# Altium footprint library PCB_Altium_Library_Manuel.PcbLib: 53 footprints (part 3 of 4)
Each footprint in its own frame and in the unit in brackets; x right, y up, seen from the top. Pads: shape width x height; smd on the part's side, far side on the other; paste and mask are expansions set on the pad; w line width, h text height; cw(c..) or ccw(c..) is an arc to the next point about the centre after c.
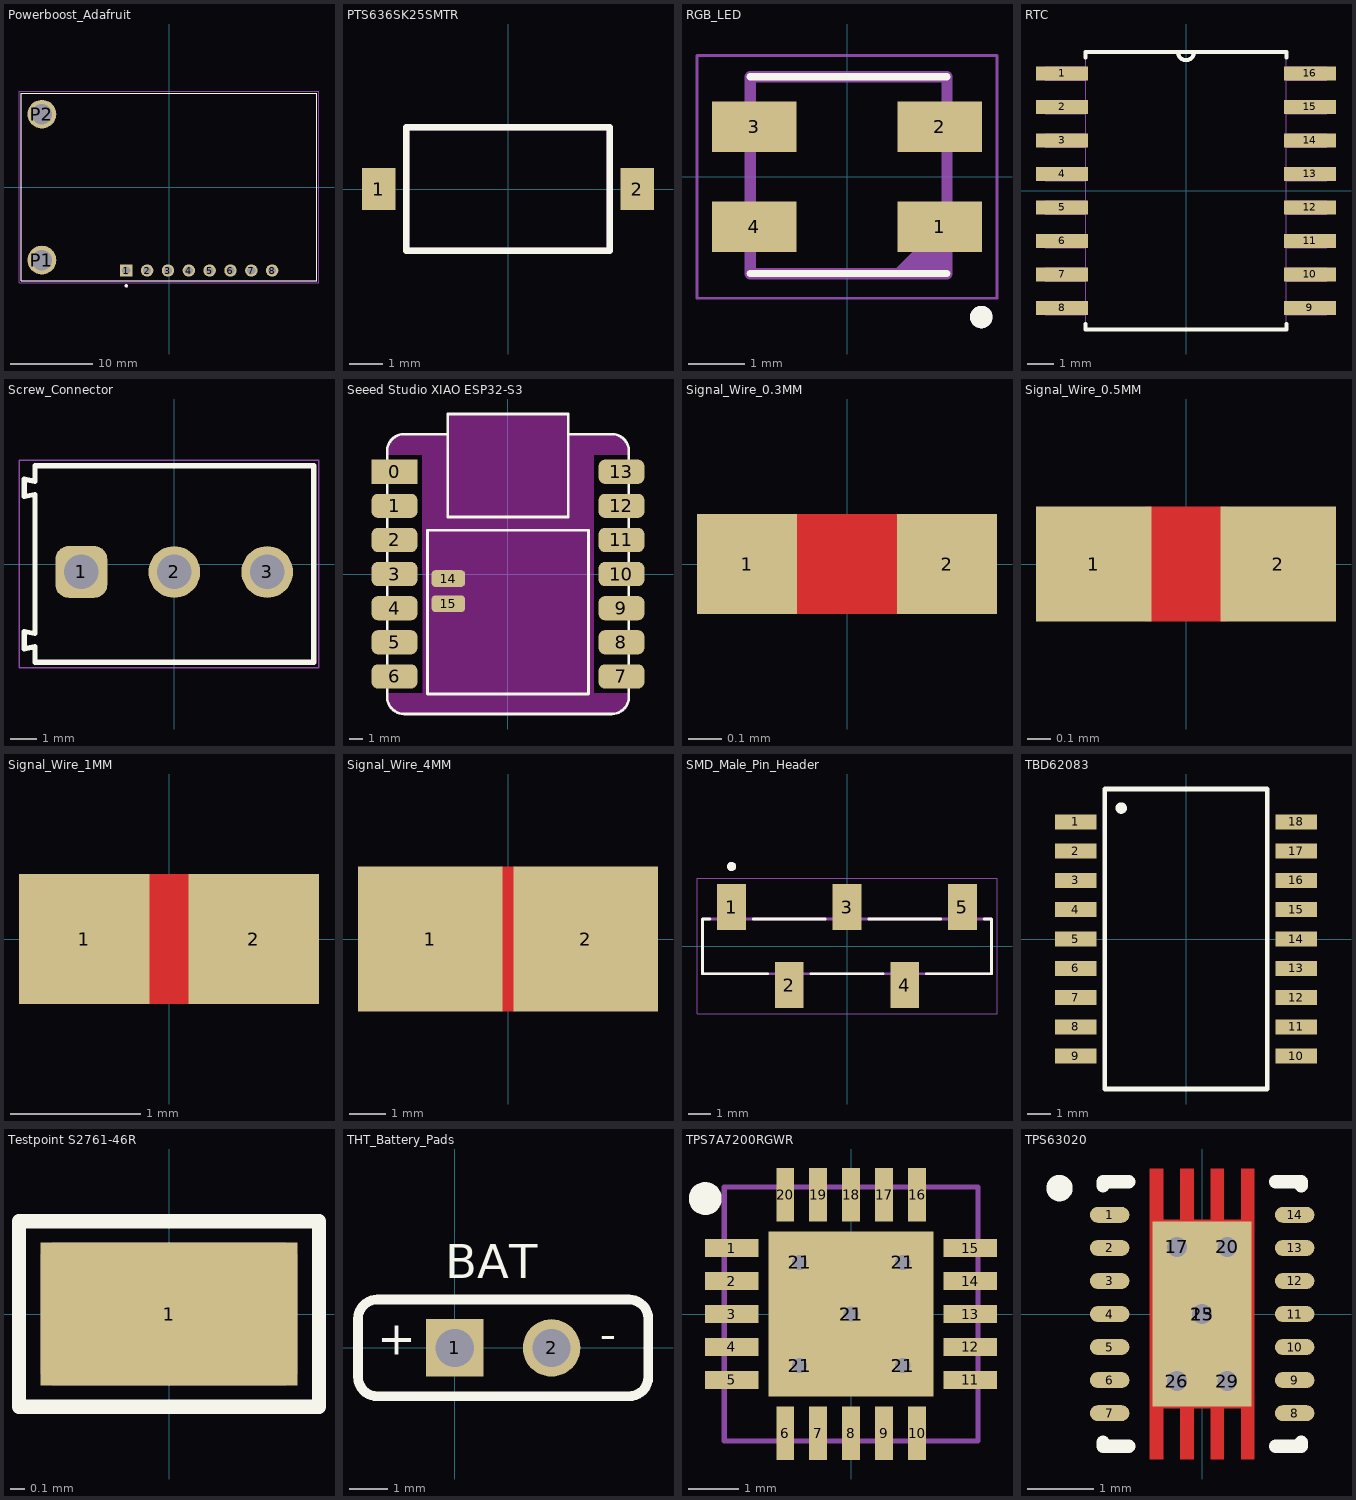
[diagram p2: the footprints below, top view; thin cyan lines are the x and y axes]

## Powerboost_Adafruit [mm] "PowerBoost 1000 Charger - Rechargeable 5V Lipo USB Boost @ 1A - 1000C"
pads (10):
  rect 1.508x1.508 / inner round 1.508 / far side rect 1.508x1.508 hole 1: 1(-5.207,-10.16)
  round 1.508 hole 1: 2(-2.667,-10.16) 3(-0.127,-10.16) 4(2.413,-10.16) 5(4.953,-10.16) 6(7.493,-10.16) 7(10.033,-10.16) 8(12.573,-10.16)
  round 3.516 hole 2.5: P1(-15.494,-8.89) P2(-15.494,8.89)
Top Overlay:
  circle w0.2: c-5.207,-12.03 r0.1
  lines w0.127: -18.034,-11.43 18.034,-11.43 18.034,11.43 -18.034,11.43 -18.034,-11.43
Mechanical 13:
  circle w0.2: c-5.207,-12.03 r0.1
  lines w0.127: -18.034,-11.43 -18.034,11.43 18.034,11.43 18.034,-11.43 -18.034,-11.43
Mechanical 15:
  lines w0.05: -18.284,-11.68 -18.284,11.68 18.284,11.68 18.284,-11.68 -18.284,-11.68
3D body "step_temp.STEP": height 7.18, standoff 0.01, extent -18.666,-11.43 18.034,11.43

## PTS636SK25SMTR [mm]
pads (2):
  rect 1x1.25 smd: 1(-3.875,0) 2(3.875,0)
Top Overlay:
  lines w0.2: -3.05,-1.85 3.05,-1.85 3.05,1.85 -3.05,1.85 -3.05,-1.85
Mechanical 13:
  lines w0.2: -3.05,-1.85 3.05,-1.85 3.05,1.85 -3.05,1.85 -3.05,-1.85
3D body "PTS636SK25SMTR_LFS.stp": height 2.5, standoff -0.05, extent -4,-1.85 4,1.85

## RGB_LED [mm] "S35353RGBSK6812MINID001"
pads (4):
  rect 1.5x0.9 smd: 1(1.651,-0.889) 2(1.651,0.889) 3(-1.651,0.889) 4(-1.651,-0.889)
Top Overlay:
  circle w0.2: c2.388,-2.494 r0.1
  lines w0.127: -1.722,-1.722 1.778,-1.722 ; -1.722,1.778 1.778,1.778
Mechanical 13:
  circle w0.2: c2.388,-2.494 r0.1
  region: 1.778,-1.722 0.778,-1.722 1.778,-0.722
  lines w0.2: -1.722,-1.722 1.778,-1.722 1.778,1.778 -1.722,1.778 -1.722,-1.722
Mechanical 15:
  lines w0.05: -2.667,-2.159 -2.667,2.159 2.667,2.159 2.667,-2.159 -2.667,-2.159
3D body "SK68XXMINI-HS--3DModel-STEP-269445.STEP": height 1.96, standoff 0.01, extent -1.85,-1.75 1.85,1.75

## RTC [mil] "DS3231S#, SOIC127P1032X265-16N, Real Time Clock (RTC) IC Clock/Calendar - IÂ²C, 2-Wire Serial 16-SOIC (0.295, 7.50mm Width)."
pads (16):
  rect 78x21 smd: 1(-185,175) 2(-185,125) 3(-185,75) 4(-185,25) 5(-185,-25) 6(-185,-75) 7(-185,-125) 8(-185,-175) 9(185,-175) 10(185,-125) 11(185,-75) 12(185,-25) 13(185,25) 14(185,75) 15(185,125) 16(185,175)
Top Overlay:
  lines w6: -150,-199 -150,-207 150,-207 150,-199 ; -150,199 -150,207 -12,207 ; 150,199 150,207 12,207 ; -12,207 ccw(c0,207) 12,207 ; -12,207 12,207
Mechanical 13:
  lines w0: -12,207 ccw(c0,207) 12,207 ; -12,207 -150,207 -150,-207 150,-207 150,207 12,207 ; -12,207 12,207 ; -210,-185 -150,-185 -150,-165 -210,-165 -210,-185 ; -210,-135 -150,-135 -150,-115 -210,-115 -210,-135 ; -210,-85 -150,-85 -150,-65 -210,-65 -210,-85 ; -210,-35 -150,-35 -150,-15 -210,-15 -210,-35 ; -210,15 -150,15 -150,35 -210,35 -210,15 ; -210,65 -150,65 -150,85 -210,85 -210,65 ; -210,115 -150,115 -150,135 -210,135 -210,115 ; -210,165 -150,165 -150,185 -210,185 -210,165 ; 150,-185 210,-185 210,-165 150,-165 150,-185 ; 150,-135 210,-135 210,-115 150,-115 150,-135 ; 150,-85 210,-85 210,-65 150,-65 150,-85 ; 150,-35 210,-35 210,-15 150,-15 150,-35 ; 150,15 210,15 210,35 150,35 150,15 ; 150,65 210,65 210,85 150,85 150,65 ; 150,115 210,115 210,135 150,135 150,115 ; 150,165 210,165 210,185 150,185 150,165
3D body "step_temp.STEP": height 104.33, standoff 0, extent -203.25,-202.76 203.25,202.76

## Screw_Connector [mm] "691214110003 Wurth Elektronik, 3.50 mm Horizontal Entry Modular, 3p"
pads (3):
  rrect50% 1.95x1.95 hole 1.3: 1(-3.5,-0.3)
  round 1.95 hole 1.3: 2(0,-0.3) 3(3.5,-0.3)
Top Overlay:
  lines w0.2: -5.65,-3.195 -5.65,-2.545 -5.25,-2.62 -5.25,2.62 -5.65,2.545 -5.65,3.195 -5.25,3.12 -5.25,3.7 5.25,3.7 5.25,-3.7 -5.25,-3.7 -5.25,-3.12 -5.65,-3.195
Top 3D Body:
  lines w0.1: -5.65,-3.195 -5.65,-2.545 -5.25,-2.62 -5.25,2.62 -5.65,2.545 -5.65,3.195 -5.25,3.12 -5.25,3.7 5.25,3.7 5.25,-3.7 -5.25,-3.7 -5.25,-3.12 -5.65,-3.195
Top Courtyard:
  lines w0.05: -5.85,-3.9 -5.85,3.9 5.45,3.9 5.45,-3.9 -5.85,-3.9
Top Assembly:
  lines w0.1: -5.65,-3.195 -5.25,-3.12 -5.25,-3.7 5.25,-3.7 5.25,3.7 -5.25,3.7 -5.25,3.12 -5.65,3.195 -5.65,2.545 -5.25,2.62 -5.25,-2.62 -5.65,-2.545 -5.65,-3.195
Top Designator:
  text ".Designator" at -3.647,-0.357 h1
Bottom Courtyard:
  lines w0.1: -0.5,0 0.5,0 ; 0,-0.5 0,0.5
3D body "691214110003.stp": height 8.55, standoff -3.65, extent -5.7,-3.7 5.25,3.7

## Seeed Studio XIAO ESP32-S3 [mm]
pads (17):
  rect 3.4x1.8 smd: 0(-8.45,7.62)
  rrect50% 3.4x1.8 smd: 1(-8.45,5.08) 2(-8.45,2.54) 3(-8.45,0) 4(-8.45,-2.54) 5(-8.45,-5.08) 6(-8.45,-7.62) 7(8.45,-7.62) 8(8.45,-5.08) 9(8.45,-2.54) 10(8.45,0) 11(8.45,2.54) 12(8.45,5.08) 13(8.45,7.62)
  rrect50% 2.5x1.25 smd: 14(-4.445,-0.33) 15(-4.445,-2.21)
  rrect50% 0.05x0.05 on Mech13: 36(0,0.005)
Top Overlay:
  lines w0.2: -4.475,10.42 -4.475,11.92 4.475,11.92 4.475,10.42 ; -4.475,10.42 -7.75,10.42 ccw(c-7.75,9.17) -9,9.17 -9,-9.155 ccw(c-7.735,-9.155) -7.735,-10.42 7.735,-10.42 ccw(c7.735,-9.155) 9,-9.155 9,9.17 ccw(c7.75,9.17) 7.75,10.42 4.475,10.42 ; -4.475,10.42 -4.475,4.245 4.475,4.245 4.475,10.42 ; -6,-8.93 6,-8.93 6,3.27 -6,3.27 -6,-8.93
Keep-Out Layer:
  region: -4.475,11.92 4.475,11.92 4.475,10.42 8.247,10.42 9,9.667 9,8.9 6.384,8.9 6.384,-8.884 9,-8.884 9,-9.641 8.314,-10.328 7.827,-10.328 7.735,-10.42 -8.163,-10.42 -8.779,-9.803 -8.821,-9.803 -9,-9.625 -9,-8.884 -6.347,-8.884 -6.4,8.9 -9,8.9 -9,9.587 -8.555,10.032 -8.555,10.126 -8.261,10.42 -4.475,10.42
3D body: height 1.2, standoff 0, extent 6.8,-8.57 9.025,-6.67
3D body: height 1.2, standoff 0, extent -9.025,-8.57 -6.8,-6.67
3D body: height 1.2, standoff 0, extent 6.8,-6.03 9.025,-4.13
3D body: height 1.2, standoff 0, extent -9.025,-6.03 -6.8,-4.13
3D body: height 1.2, standoff 0, extent 6.8,-3.49 9.025,-1.59
3D body: height 1.2, standoff 0, extent -9.025,-3.49 -6.8,-1.59
3D body: height 1.2, standoff 0, extent 6.8,-0.95 9.025,0.95
3D body: height 1.2, standoff 0, extent -9.025,-0.95 -6.8,0.95
3D body: height 1.2, standoff 0, extent 6.8,1.59 9.025,3.49
3D body: height 1.2, standoff 0, extent -9.025,1.59 -6.8,3.49
3D body: height 1.2, standoff 0, extent 6.8,4.13 9.025,6.03
3D body: height 1.2, standoff 0, extent -9.025,4.13 -6.8,6.03
3D body: height 1.2, standoff 0, extent 6.8,6.67 9.025,8.57
3D body: height 1.2, standoff 0, extent -9.025,6.67 -6.8,8.57
3D body "XIAO ESP32C3--3DModel-STEP-269445.STEP": height 4.21, standoff 0, extent -8.89,-10.477 8.89,11.986

## Signal_Wire_0.3MM [mm] "Signal wire to connect two different signals in schematic"
pads (2):
  rect 0.3x0.3 smd paste-0.2 mask-0.2: 1(-0.3,0) 2(0.3,0)
Top Layer:
  rectangle: -0.2,-0.15 0.2,0.15

## Signal_Wire_0.5MM [mm] "Signal wire to connect two different signals in schematic"
pads (2):
  rect 0.5x0.5 smd paste-0.4 mask+0.102: 1(-0.4,0) 2(0.4,0)
Top Layer:
  rectangle: -0.175,-0.25 0.175,0.25

## Signal_Wire_1MM [mm] "Signal wire to connect two different signals in schematic"
pads (2):
  rect 1x1 smd paste-0.8 mask+0.102: 1(-0.65,0) 2(0.65,0)
Top Layer:
  rectangle: -0.175,-0.5 0.175,0.5

## Signal_Wire_4MM [mm] "Signal wire (Power) to connect two different signals in schematic"
pads (2):
  rect 4x4 smd paste-3 mask+0.102: 1(-2.15,0) 2(2.15,0)
Top Layer:
  rectangle: -0.2,-2 0.2,2

## SMD_Male_Pin_Header [mm] "10129380-905001BLF, 5x1 2.54mm Male Pin Header."
pads (5):
  rect 1.27x2.03 smd: 1(-5.08,1.715) 2(-2.54,-1.715) 3(0,1.715) 4(2.54,-1.715) 5(5.08,1.715)
Top Overlay:
  circle w0.2: c-5.08,3.5 r0.1
  lines w0.127: -6.035,1.19 -6.35,1.19 -6.35,-1.22 -3.495,-1.22 ; -4.125,1.19 -0.955,1.19 ; -1.585,-1.22 1.585,-1.22 ; 0.955,1.19 4.125,1.19 ; 3.495,-1.22 6.35,-1.22 6.35,1.19 6.035,1.19
Mechanical 13:
  circle w0.2: c-5.08,3.5 r0.1
  lines w0.127: -6.35,-1.22 -6.35,1.19 6.35,1.19 6.35,-1.22 -6.35,-1.22
Mechanical 15:
  lines w0.05: -6.6,-2.98 -6.6,2.98 6.6,2.98 6.6,-2.98 -6.6,-2.98
3D body "step_temp.STEP": height 9.85, standoff 0, extent -6.35,-2.415 6.35,2.415

## TBD62083 [mm] "Gate Drivers DMOS Transistor Array 8-CH, 50V/0.5A SOP-18"
pads (18):
  rect 1.8x0.65 smd: 1(-4.775,5.08) 2(-4.775,3.81) 3(-4.775,2.54) 4(-4.775,1.27) 5(-4.775,0) 6(-4.775,-1.27) 7(-4.775,-2.54) 8(-4.775,-3.81) 9(-4.775,-5.08) 10(4.775,-5.08) 11(4.775,-3.81) 12(4.775,-2.54) 13(4.775,-1.27) 14(4.775,0) 15(4.775,1.27) 16(4.775,2.54) 17(4.775,3.81) 18(4.775,5.08)
Top Overlay:
  circle w0.3: c-2.809,5.673 r0.1
  lines w0.2: -3.525,-6.5 3.525,-6.5 3.525,6.5 -3.525,6.5 -3.525,-6.5
Mechanical 15:
  lines w0.1: -3.5,-6.5 3.5,-6.5 3.5,6.5 -3.5,6.5 -3.5,-6.5
3D body "TBD62083AFG,EL.stp": height 2.45, standoff 0, extent -5.15,-6.5 5.15,6.5

## Testpoint S2761-46R [mm] "Prüfstecker und Messbuchsen EZ BoardWare S27 SMT Mini Test Terminal, Reel"
pads (1):
  rect 1.8x1 smd: 1(0,0)
Top Overlay:
  lines w0.1: -1.05,-0.65 -1.05,0.65 1.05,0.65 1.05,-0.65 -1.05,-0.65
Mechanical 15:
  lines w0.2: -0.8,-0.4 -0.8,0.4 0.8,0.4 0.8,-0.4 -0.8,-0.4
3D body "S2761-46R.stp": height 1.23, standoff 0.05, extent -0.8,-0.4 0.8,0.4

## THT_Battery_Pads [mm] "Pads to connect battery"
pads (2):
  rect 1.508x1.508 / inner round 1.508 / far side rect 1.508x1.508 hole 1: 1(0,0)
  round 1.508 hole 1: 2(2.54,0)
Top Overlay:
  lines w0.254: -2.54,-0.762 ccw(c-2.032,-0.762) -2.032,-1.27 4.572,-1.27 ccw(c4.572,-0.762) 5.08,-0.762 5.08,0.762 ccw(c4.572,0.762) 4.572,1.27 -2.032,1.27 ccw(c-2.032,0.762) -2.54,0.762 -2.54,-0.762
  text "-" at 3.81,-0.354 h1.52
  text "+" at -2.032,-0.48 h1.52
  text "BAT" at -0.254,1.524 h1.52

## TPS7A7200RGWR [mm] "Festspannungsregler 3V, Mouser Nr. 595-TPS7A7200RGWR"
pads (26):
  rect 1.05x0.35 smd: 1(-2.35,1.3) 2(-2.35,0.65) 3(-2.35,0) 4(-2.35,-0.65) 5(-2.35,-1.3) 11(2.35,-1.3) 12(2.35,-0.65) 13(2.35,0) 14(2.35,0.65) 15(2.35,1.3)
  rect 0.35x1.05 smd: 6(-1.3,-2.35) 7(-0.65,-2.35) 8(0,-2.35) 9(0.65,-2.35) 10(1.3,-2.35) 16(1.3,2.35) 17(0.65,2.35) 18(0,2.35) 19(-0.65,2.35) 20(-1.3,2.35)
  round 0.7 hole 0.3: 21(-1.016,-1.016) 21(-1.016,1.016) 21(0,0) 21(1.016,-1.016) 21(1.016,1.016)
  rect 3.25x3.25 smd: 21(0,0)
Top Overlay:
  circle w0.325: c-2.875,2.275 r0.162
Mechanical 13:
  lines w0.1: -2.5,-2.5 2.5,-2.5 2.5,2.5 -2.5,2.5 -2.5,-2.5
3D body "TPS7A7200RGWR.stp": height 1, standoff 0, extent -2.5,-2.5 2.5,2.5

## TPS63020 [mm] "Buck-Boost-Converter, Input: 1.8V-5.5V, Output:  1.2 V to 5.5 V, VSON-14"
pads (20):
  oval 0.6x0.24 smd mask+0: 1(-1.4,1.5) 2(-1.4,1) 3(-1.4,0.5) 4(-1.4,0) 5(-1.4,-0.5) 6(-1.4,-1) 7(-1.4,-1.5) 8(1.4,-1.5) 9(1.4,-1) 10(1.4,-0.5) 11(1.4,0) 12(1.4,0.5) 13(1.4,1) 14(1.4,1.5)
  rect 1.5x2.8 smd paste-2 mask+0: 15(0,0)
  round 0.7 hole 0.3: 17(-0.381,1.016) 20(0.381,1.016) 23(0,0) 26(-0.381,-1.016) 29(0.381,-1.016)
Top Layer:
  region: 0.79,-2.2 0.59,-2.2 0.59,-1.425 0.33,-1.425 0.33,-2.2 0.13,-2.2 0.13,-1.425 -0.13,-1.425 -0.13,-2.2 -0.33,-2.2 -0.33,-1.425 -0.59,-1.425 -0.59,-2.2 -0.79,-2.2 -0.79,2.2 -0.59,2.2 -0.59,1.425 -0.33,1.425 -0.33,2.2 -0.13,2.2 -0.13,1.425 0.13,1.425 0.13,2.2 0.33,2.2 0.33,1.425 0.59,1.425 0.59,2.2 0.79,2.2
Top Overlay:
  circle w0.2: c-2.159,1.905 r0.1
  lines w0.2: -1.5,-1.94 -1.5,-2 -1.11,-2 ; -1.5,1.94 -1.5,2 -1.11,2 ; 1.11,-2 1.5,-2 1.5,-1.94 ; 1.11,2 1.5,2 1.5,1.94
Top Paste:
  region: -0.13,0.1 -0.79,0.1 -0.79,2.2 -0.59,2.2 -0.59,1.35 -0.33,1.35 -0.33,2.2 -0.13,2.2
  region: 0.79,0.1 0.13,0.1 0.13,2.2 0.33,2.2 0.33,1.35 0.59,1.35 0.59,2.2 0.79,2.2
  region: 0.79,-2.2 0.59,-2.2 0.59,-1.35 0.33,-1.35 0.33,-2.2 0.13,-2.2 0.13,-0.1 0.79,-0.1
  region: -0.13,-2.2 -0.33,-2.2 -0.33,-1.35 -0.59,-1.35 -0.59,-2.2 -0.79,-2.2 -0.79,-0.1 -0.13,-0.1
Top Solder:
  drawing of 15 lines, arcs and shapes, not listed
3D body "step_temp.STEP": height 1, standoff 0, extent -1.5,-2 1.5,2